# Altium footprint library jeu_du_moulin_boura_TouchPAD.PcbLib: 16 footprints
Each footprint in its own frame and in the unit in brackets; x right, y up, seen from the top. Pads: shape width x height; smd on the part's side, far side on the other; paste and mask are expansions set on the pad; w line width, h text height; cw(c..) or ccw(c..) is an arc to the next point about the centre after c.
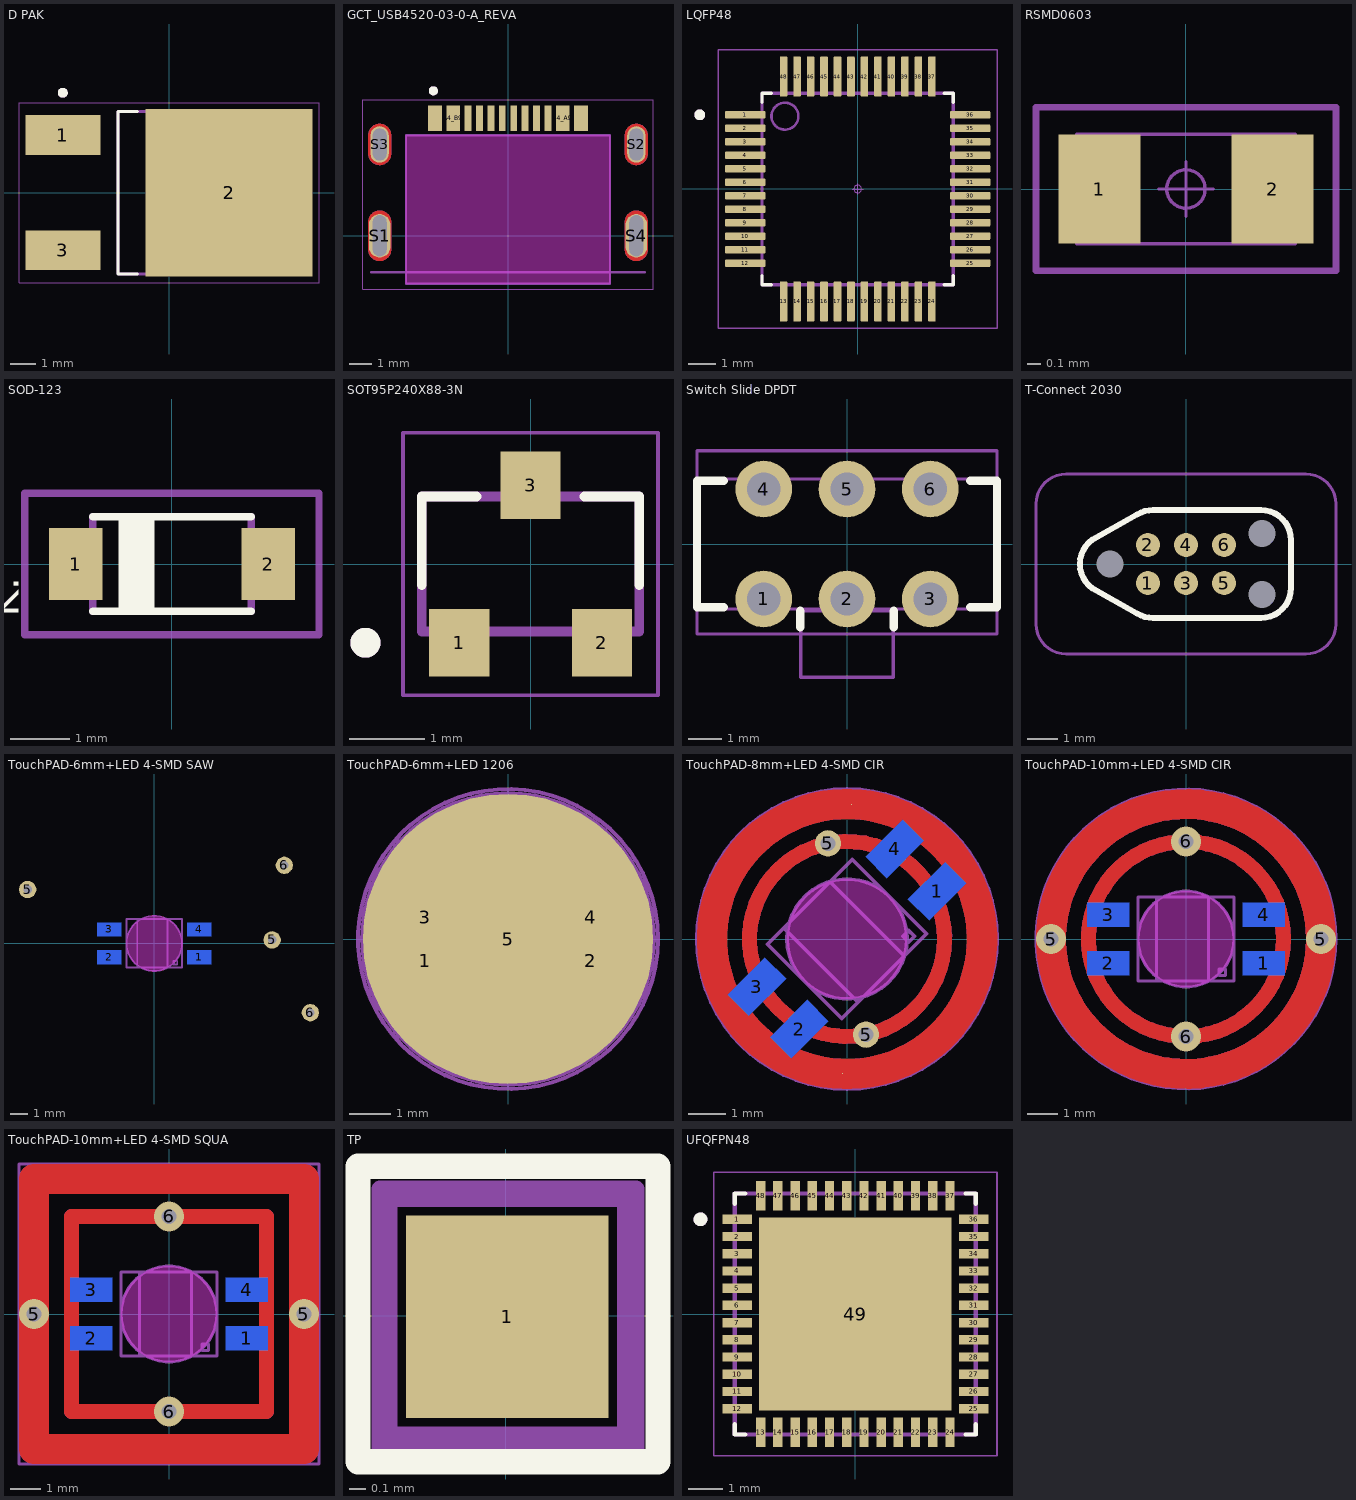
[diagram p0: the footprints below, top view; thin cyan lines are the x and y axes]

## D PAK [mm]
height 2.4
pads (3):
  rect 3x1.6 smd: 1(-4.25,2.3) 3(-4.25,-2.3)
  rect 6.7x6.7 smd paste-2.645: 2(2.4,0)
Top Overlay:
  circle w0.2: c-4.25,4 r0.1
  lines w0.127: -1.264,-3.25 -2.037,-3.25 -2.037,3.25 -1.264,3.25
Top Paste:
  region: 0.645,-3.165 -0.765,-3.165 -0.765,-1.755 0.645,-1.755
  region: 0.645,-0.705 -0.765,-0.705 -0.765,0.705 0.645,0.705
  region: 0.645,1.755 -0.765,1.755 -0.765,3.165 0.645,3.165
  region: 5.565,-3.165 4.155,-3.165 4.155,-1.755 5.565,-1.755
  region: 3.105,-3.165 1.695,-3.165 1.695,-1.755 3.105,-1.755
  region: 5.565,-0.705 4.155,-0.705 4.155,0.705 5.565,0.705
  region: 5.565,1.755 4.155,1.755 4.155,3.165 5.565,3.165
  region: 3.105,1.755 1.695,1.755 1.695,3.165 3.105,3.165
Top Assembly:
  circle w0.2: c-4.25,4 r0.1
  lines w0.127: -2.037,-3.25 -2.037,3.25 4.062,3.25 4.062,-3.25 -2.037,-3.25
  text ".Designator" at -3.533,4.862 h0.8
Top Courtyard:
  lines w0.05: -6,-3.6 6,-3.6 6,3.6 -6,3.6 -6,-3.6
3D body "step_temp.STEP": height 2.4, standoff 0, extent -4.862,-3.25 4.862,3.25

## GCT_USB4520-03-0-A_REVA [mm] "USB-C"
pads (16):
  rect 0.6x1.1 smd: A1_B12(-3.2,5.15) A4_B9(-2.4,5.15) B1_A12(3.2,5.15) B4_A9(2.4,5.15)
  rect 0.3x1.1 smd: A5(-1.25,5.15) A6(-0.25,5.15) A7(0.25,5.15) A8(1.25,5.15) B5(1.75,5.15) B6(0.75,5.15) B7(-0.75,5.15) B8(-1.75,5.15)
  oval 0.95x1.9 hole 0.6 slot 1.8 at 90 deg mask+0: S1(-5.62,0) S4(5.62,0)
  oval 0.8x1.6 hole 0.6 slot 1.4 at 90 deg mask+0: S2(5.62,4) S3(-5.62,4)
Top Layer:
  region: -5.594,4.899 -5.568,4.897 -5.542,4.894 -5.516,4.889 -5.491,4.883 -5.465,4.876 -5.441,4.867 -5.417,4.857 -5.393,4.846 -5.37,4.833 -5.348,4.819 -5.326,4.805 -5.305,4.789 -5.285,4.772 -5.266,4.754 -5.248,4.735 -5.231,4.715 -5.215,4.694 -5.201,4.672 -5.187,4.65 -5.174,4.627 -5.163,4.603 -5.153,4.579 -5.144,4.555 -5.137,4.529 -5.131,4.504 -5.126,4.478 -5.123,4.452 -5.121,4.426 -5.12,4.4 -5.12,3.6 -5.121,3.574 -5.123,3.548 -5.126,3.522 -5.131,3.496 -5.137,3.471 -5.144,3.445 -5.153,3.421 -5.163,3.397 -5.174,3.373 -5.187,3.35 -5.201,3.328 -5.215,3.306 -5.231,3.285 -5.248,3.265 -5.266,3.246 -5.285,3.228 -5.305,3.211 -5.326,3.195 -5.348,3.181 -5.37,3.167 -5.393,3.154 -5.417,3.143 -5.441,3.133 -5.465,3.124 -5.491,3.117 -5.516,3.111 -5.542,3.106 -5.568,3.103 -5.594,3.101 -5.62,3.1 -5.646,3.101 -5.672,3.103 -5.698,3.106 -5.724,3.111 -5.749,3.117 -5.775,3.124 -5.799,3.133 -5.823,3.143 -5.847,3.154 -5.87,3.167 -5.892,3.181 -5.914,3.195 -5.935,3.211 -5.955,3.228 -5.974,3.246 -5.992,3.265 -6.009,3.285 -6.025,3.306 -6.039,3.328 -6.053,3.35 -6.066,3.373 -6.077,3.397 -6.087,3.421 -6.096,3.445 -6.103,3.471 -6.109,3.496 -6.114,3.522 -6.117,3.548 -6.119,3.574 -6.12,3.6 -6.12,4.4 -6.119,4.426 -6.117,4.452 -6.114,4.478 -6.109,4.504 -6.103,4.529 -6.096,4.555 -6.087,4.579 -6.077,4.603 -6.066,4.627 -6.053,4.65 -6.039,4.672 -6.025,4.694 -6.009,4.715 -5.992,4.735 -5.974,4.754 -5.955,4.772 -5.935,4.789 -5.914,4.805 -5.892,4.819 -5.87,4.833 -5.847,4.846 -5.823,4.857 -5.799,4.867 -5.775,4.876 -5.749,4.883 -5.724,4.889 -5.698,4.894 -5.672,4.897 -5.646,4.899 -5.62,4.9
  region: 5.646,4.899 5.672,4.897 5.698,4.894 5.724,4.889 5.749,4.883 5.775,4.876 5.799,4.867 5.823,4.857 5.847,4.846 5.87,4.833 5.892,4.819 5.914,4.805 5.935,4.789 5.955,4.772 5.974,4.754 5.992,4.735 6.009,4.715 6.025,4.694 6.039,4.672 6.053,4.65 6.066,4.627 6.077,4.603 6.087,4.579 6.096,4.555 6.103,4.529 6.109,4.504 6.114,4.478 6.117,4.452 6.119,4.426 6.12,4.4 6.12,3.6 6.119,3.574 6.117,3.548 6.114,3.522 6.109,3.496 6.103,3.471 6.096,3.445 6.087,3.421 6.077,3.397 6.066,3.373 6.053,3.35 6.039,3.328 6.025,3.306 6.009,3.285 5.992,3.265 5.974,3.246 5.955,3.228 5.935,3.211 5.914,3.195 5.892,3.181 5.87,3.167 5.847,3.154 5.823,3.143 5.799,3.133 5.775,3.124 5.749,3.117 5.724,3.111 5.698,3.106 5.672,3.103 5.646,3.101 5.62,3.1 5.594,3.101 5.568,3.103 5.542,3.106 5.516,3.111 5.491,3.117 5.465,3.124 5.441,3.133 5.417,3.143 5.393,3.154 5.37,3.167 5.348,3.181 5.326,3.195 5.305,3.211 5.285,3.228 5.266,3.246 5.248,3.265 5.231,3.285 5.215,3.306 5.201,3.328 5.187,3.35 5.174,3.373 5.163,3.397 5.153,3.421 5.144,3.445 5.137,3.471 5.131,3.496 5.126,3.522 5.123,3.548 5.121,3.574 5.12,3.6 5.12,4.4 5.121,4.426 5.123,4.452 5.126,4.478 5.131,4.504 5.137,4.529 5.144,4.555 5.153,4.579 5.163,4.603 5.174,4.627 5.187,4.65 5.201,4.672 5.215,4.694 5.231,4.715 5.248,4.735 5.266,4.754 5.285,4.772 5.305,4.789 5.326,4.805 5.348,4.819 5.37,4.833 5.393,4.846 5.417,4.857 5.441,4.867 5.465,4.876 5.491,4.883 5.516,4.889 5.542,4.894 5.568,4.897 5.594,4.899 5.62,4.9
  region: -5.594,1.099 -5.568,1.097 -5.542,1.094 -5.516,1.089 -5.491,1.083 -5.465,1.076 -5.441,1.067 -5.417,1.057 -5.393,1.046 -5.37,1.033 -5.348,1.019 -5.326,1.005 -5.305,0.989 -5.285,0.972 -5.266,0.954 -5.248,0.935 -5.231,0.915 -5.215,0.894 -5.201,0.872 -5.187,0.85 -5.174,0.827 -5.163,0.803 -5.153,0.779 -5.144,0.755 -5.137,0.729 -5.131,0.704 -5.126,0.678 -5.123,0.652 -5.121,0.626 -5.12,0.6 -5.12,-0.6 -5.121,-0.626 -5.123,-0.652 -5.126,-0.678 -5.131,-0.704 -5.137,-0.729 -5.144,-0.755 -5.153,-0.779 -5.163,-0.803 -5.174,-0.827 -5.187,-0.85 -5.201,-0.872 -5.215,-0.894 -5.231,-0.915 -5.248,-0.935 -5.266,-0.954 -5.285,-0.972 -5.305,-0.989 -5.326,-1.005 -5.348,-1.019 -5.37,-1.033 -5.393,-1.046 -5.417,-1.057 -5.441,-1.067 -5.465,-1.076 -5.491,-1.083 -5.516,-1.089 -5.542,-1.094 -5.568,-1.097 -5.594,-1.099 -5.62,-1.1 -5.646,-1.099 -5.672,-1.097 -5.698,-1.094 -5.724,-1.089 -5.749,-1.083 -5.775,-1.076 -5.799,-1.067 -5.823,-1.057 -5.847,-1.046 -5.87,-1.033 -5.892,-1.019 -5.914,-1.005 -5.935,-0.989 -5.955,-0.972 -5.974,-0.954 -5.992,-0.935 -6.009,-0.915 -6.025,-0.894 -6.039,-0.872 -6.053,-0.85 -6.066,-0.827 -6.077,-0.803 -6.087,-0.779 -6.096,-0.755 -6.103,-0.729 -6.109,-0.704 -6.114,-0.678 -6.117,-0.652 -6.119,-0.626 -6.12,-0.6 -6.12,0.6 -6.119,0.626 -6.117,0.652 -6.114,0.678 -6.109,0.704 -6.103,0.729 -6.096,0.755 -6.087,0.779 -6.077,0.803 -6.066,0.827 -6.053,0.85 -6.039,0.872 -6.025,0.894 -6.009,0.915 -5.992,0.935 -5.974,0.954 -5.955,0.972 -5.935,0.989 -5.914,1.005 -5.892,1.019 -5.87,1.033 -5.847,1.046 -5.823,1.057 -5.799,1.067 -5.775,1.076 -5.749,1.083 -5.724,1.089 -5.698,1.094 -5.672,1.097 -5.646,1.099 -5.62,1.1
  region: 5.646,1.099 5.672,1.097 5.698,1.094 5.724,1.089 5.749,1.083 5.775,1.076 5.799,1.067 5.823,1.057 5.847,1.046 5.87,1.033 5.892,1.019 5.914,1.005 5.935,0.989 5.955,0.972 5.974,0.954 5.992,0.935 6.009,0.915 6.025,0.894 6.039,0.872 6.053,0.85 6.066,0.827 6.077,0.803 6.087,0.779 6.096,0.755 6.103,0.729 6.109,0.704 6.114,0.678 6.117,0.652 6.119,0.626 6.12,0.6 6.12,-0.6 6.119,-0.626 6.117,-0.652 6.114,-0.678 6.109,-0.704 6.103,-0.729 6.096,-0.755 6.087,-0.779 6.077,-0.803 6.066,-0.827 6.053,-0.85 6.039,-0.872 6.025,-0.894 6.009,-0.915 5.992,-0.935 5.974,-0.954 5.955,-0.972 5.935,-0.989 5.914,-1.005 5.892,-1.019 5.87,-1.033 5.847,-1.046 5.823,-1.057 5.799,-1.067 5.775,-1.076 5.749,-1.083 5.724,-1.089 5.698,-1.094 5.672,-1.097 5.646,-1.099 5.62,-1.1 5.594,-1.099 5.568,-1.097 5.542,-1.094 5.516,-1.089 5.491,-1.083 5.465,-1.076 5.441,-1.067 5.417,-1.057 5.393,-1.046 5.37,-1.033 5.348,-1.019 5.326,-1.005 5.305,-0.989 5.285,-0.972 5.266,-0.954 5.248,-0.935 5.231,-0.915 5.215,-0.894 5.201,-0.872 5.187,-0.85 5.174,-0.827 5.163,-0.803 5.153,-0.779 5.144,-0.755 5.137,-0.729 5.131,-0.704 5.126,-0.678 5.123,-0.652 5.121,-0.626 5.12,-0.6 5.12,0.6 5.121,0.626 5.123,0.652 5.126,0.678 5.131,0.704 5.137,0.729 5.144,0.755 5.153,0.779 5.163,0.803 5.174,0.827 5.187,0.85 5.201,0.872 5.215,0.894 5.231,0.915 5.248,0.935 5.266,0.954 5.285,0.972 5.305,0.989 5.326,1.005 5.348,1.019 5.37,1.033 5.393,1.046 5.417,1.057 5.441,1.067 5.465,1.076 5.491,1.083 5.516,1.089 5.542,1.094 5.568,1.097 5.594,1.099 5.62,1.1
Bottom Layer:
  region: -5.594,4.899 -5.568,4.897 -5.542,4.894 -5.516,4.889 -5.491,4.883 -5.465,4.876 -5.441,4.867 -5.417,4.857 -5.393,4.846 -5.37,4.833 -5.348,4.819 -5.326,4.805 -5.305,4.789 -5.285,4.772 -5.266,4.754 -5.248,4.735 -5.231,4.715 -5.215,4.694 -5.201,4.672 -5.187,4.65 -5.174,4.627 -5.163,4.603 -5.153,4.579 -5.144,4.555 -5.137,4.529 -5.131,4.504 -5.126,4.478 -5.123,4.452 -5.121,4.426 -5.12,4.4 -5.12,3.6 -5.121,3.574 -5.123,3.548 -5.126,3.522 -5.131,3.496 -5.137,3.471 -5.144,3.445 -5.153,3.421 -5.163,3.397 -5.174,3.373 -5.187,3.35 -5.201,3.328 -5.215,3.306 -5.231,3.285 -5.248,3.265 -5.266,3.246 -5.285,3.228 -5.305,3.211 -5.326,3.195 -5.348,3.181 -5.37,3.167 -5.393,3.154 -5.417,3.143 -5.441,3.133 -5.465,3.124 -5.491,3.117 -5.516,3.111 -5.542,3.106 -5.568,3.103 -5.594,3.101 -5.62,3.1 -5.646,3.101 -5.672,3.103 -5.698,3.106 -5.724,3.111 -5.749,3.117 -5.775,3.124 -5.799,3.133 -5.823,3.143 -5.847,3.154 -5.87,3.167 -5.892,3.181 -5.914,3.195 -5.935,3.211 -5.955,3.228 -5.974,3.246 -5.992,3.265 -6.009,3.285 -6.025,3.306 -6.039,3.328 -6.053,3.35 -6.066,3.373 -6.077,3.397 -6.087,3.421 -6.096,3.445 -6.103,3.471 -6.109,3.496 -6.114,3.522 -6.117,3.548 -6.119,3.574 -6.12,3.6 -6.12,4.4 -6.119,4.426 -6.117,4.452 -6.114,4.478 -6.109,4.504 -6.103,4.529 -6.096,4.555 -6.087,4.579 -6.077,4.603 -6.066,4.627 -6.053,4.65 -6.039,4.672 -6.025,4.694 -6.009,4.715 -5.992,4.735 -5.974,4.754 -5.955,4.772 -5.935,4.789 -5.914,4.805 -5.892,4.819 -5.87,4.833 -5.847,4.846 -5.823,4.857 -5.799,4.867 -5.775,4.876 -5.749,4.883 -5.724,4.889 -5.698,4.894 -5.672,4.897 -5.646,4.899 -5.62,4.9
  region: 5.646,4.899 5.672,4.897 5.698,4.894 5.724,4.889 5.749,4.883 5.775,4.876 5.799,4.867 5.823,4.857 5.847,4.846 5.87,4.833 5.892,4.819 5.914,4.805 5.935,4.789 5.955,4.772 5.974,4.754 5.992,4.735 6.009,4.715 6.025,4.694 6.039,4.672 6.053,4.65 6.066,4.627 6.077,4.603 6.087,4.579 6.096,4.555 6.103,4.529 6.109,4.504 6.114,4.478 6.117,4.452 6.119,4.426 6.12,4.4 6.12,3.6 6.119,3.574 6.117,3.548 6.114,3.522 6.109,3.496 6.103,3.471 6.096,3.445 6.087,3.421 6.077,3.397 6.066,3.373 6.053,3.35 6.039,3.328 6.025,3.306 6.009,3.285 5.992,3.265 5.974,3.246 5.955,3.228 5.935,3.211 5.914,3.195 5.892,3.181 5.87,3.167 5.847,3.154 5.823,3.143 5.799,3.133 5.775,3.124 5.749,3.117 5.724,3.111 5.698,3.106 5.672,3.103 5.646,3.101 5.62,3.1 5.594,3.101 5.568,3.103 5.542,3.106 5.516,3.111 5.491,3.117 5.465,3.124 5.441,3.133 5.417,3.143 5.393,3.154 5.37,3.167 5.348,3.181 5.326,3.195 5.305,3.211 5.285,3.228 5.266,3.246 5.248,3.265 5.231,3.285 5.215,3.306 5.201,3.328 5.187,3.35 5.174,3.373 5.163,3.397 5.153,3.421 5.144,3.445 5.137,3.471 5.131,3.496 5.126,3.522 5.123,3.548 5.121,3.574 5.12,3.6 5.12,4.4 5.121,4.426 5.123,4.452 5.126,4.478 5.131,4.504 5.137,4.529 5.144,4.555 5.153,4.579 5.163,4.603 5.174,4.627 5.187,4.65 5.201,4.672 5.215,4.694 5.231,4.715 5.248,4.735 5.266,4.754 5.285,4.772 5.305,4.789 5.326,4.805 5.348,4.819 5.37,4.833 5.393,4.846 5.417,4.857 5.441,4.867 5.465,4.876 5.491,4.883 5.516,4.889 5.542,4.894 5.568,4.897 5.594,4.899 5.62,4.9
  region: 5.646,1.099 5.672,1.097 5.698,1.094 5.724,1.089 5.749,1.083 5.775,1.076 5.799,1.067 5.823,1.057 5.847,1.046 5.87,1.033 5.892,1.019 5.914,1.005 5.935,0.989 5.955,0.972 5.974,0.954 5.992,0.935 6.009,0.915 6.025,0.894 6.039,0.872 6.053,0.85 6.066,0.827 6.077,0.803 6.087,0.779 6.096,0.755 6.103,0.729 6.109,0.704 6.114,0.678 6.117,0.652 6.119,0.626 6.12,0.6 6.12,-0.6 6.119,-0.626 6.117,-0.652 6.114,-0.678 6.109,-0.704 6.103,-0.729 6.096,-0.755 6.087,-0.779 6.077,-0.803 6.066,-0.827 6.053,-0.85 6.039,-0.872 6.025,-0.894 6.009,-0.915 5.992,-0.935 5.974,-0.954 5.955,-0.972 5.935,-0.989 5.914,-1.005 5.892,-1.019 5.87,-1.033 5.847,-1.046 5.823,-1.057 5.799,-1.067 5.775,-1.076 5.749,-1.083 5.724,-1.089 5.698,-1.094 5.672,-1.097 5.646,-1.099 5.62,-1.1 5.594,-1.099 5.568,-1.097 5.542,-1.094 5.516,-1.089 5.491,-1.083 5.465,-1.076 5.441,-1.067 5.417,-1.057 5.393,-1.046 5.37,-1.033 5.348,-1.019 5.326,-1.005 5.305,-0.989 5.285,-0.972 5.266,-0.954 5.248,-0.935 5.231,-0.915 5.215,-0.894 5.201,-0.872 5.187,-0.85 5.174,-0.827 5.163,-0.803 5.153,-0.779 5.144,-0.755 5.137,-0.729 5.131,-0.704 5.126,-0.678 5.123,-0.652 5.121,-0.626 5.12,-0.6 5.12,0.6 5.121,0.626 5.123,0.652 5.126,0.678 5.131,0.704 5.137,0.729 5.144,0.755 5.153,0.779 5.163,0.803 5.174,0.827 5.187,0.85 5.201,0.872 5.215,0.894 5.231,0.915 5.248,0.935 5.266,0.954 5.285,0.972 5.305,0.989 5.326,1.005 5.348,1.019 5.37,1.033 5.393,1.046 5.417,1.057 5.441,1.067 5.465,1.076 5.491,1.083 5.516,1.089 5.542,1.094 5.568,1.097 5.594,1.099 5.62,1.1
  region: -5.594,1.099 -5.568,1.097 -5.542,1.094 -5.516,1.089 -5.491,1.083 -5.465,1.076 -5.441,1.067 -5.417,1.057 -5.393,1.046 -5.37,1.033 -5.348,1.019 -5.326,1.005 -5.305,0.989 -5.285,0.972 -5.266,0.954 -5.248,0.935 -5.231,0.915 -5.215,0.894 -5.201,0.872 -5.187,0.85 -5.174,0.827 -5.163,0.803 -5.153,0.779 -5.144,0.755 -5.137,0.729 -5.131,0.704 -5.126,0.678 -5.123,0.652 -5.121,0.626 -5.12,0.6 -5.12,-0.6 -5.121,-0.626 -5.123,-0.652 -5.126,-0.678 -5.131,-0.704 -5.137,-0.729 -5.144,-0.755 -5.153,-0.779 -5.163,-0.803 -5.174,-0.827 -5.187,-0.85 -5.201,-0.872 -5.215,-0.894 -5.231,-0.915 -5.248,-0.935 -5.266,-0.954 -5.285,-0.972 -5.305,-0.989 -5.326,-1.005 -5.348,-1.019 -5.37,-1.033 -5.393,-1.046 -5.417,-1.057 -5.441,-1.067 -5.465,-1.076 -5.491,-1.083 -5.516,-1.089 -5.542,-1.094 -5.568,-1.097 -5.594,-1.099 -5.62,-1.1 -5.646,-1.099 -5.672,-1.097 -5.698,-1.094 -5.724,-1.089 -5.749,-1.083 -5.775,-1.076 -5.799,-1.067 -5.823,-1.057 -5.847,-1.046 -5.87,-1.033 -5.892,-1.019 -5.914,-1.005 -5.935,-0.989 -5.955,-0.972 -5.974,-0.954 -5.992,-0.935 -6.009,-0.915 -6.025,-0.894 -6.039,-0.872 -6.053,-0.85 -6.066,-0.827 -6.077,-0.803 -6.087,-0.779 -6.096,-0.755 -6.103,-0.729 -6.109,-0.704 -6.114,-0.678 -6.117,-0.652 -6.119,-0.626 -6.12,-0.6 -6.12,0.6 -6.119,0.626 -6.117,0.652 -6.114,0.678 -6.109,0.704 -6.103,0.729 -6.096,0.755 -6.087,0.779 -6.077,0.803 -6.066,0.827 -6.053,0.85 -6.039,0.872 -6.025,0.894 -6.009,0.915 -5.992,0.935 -5.974,0.954 -5.955,0.972 -5.935,0.989 -5.914,1.005 -5.892,1.019 -5.87,1.033 -5.847,1.046 -5.823,1.057 -5.799,1.067 -5.775,1.076 -5.749,1.083 -5.724,1.089 -5.698,1.094 -5.672,1.097 -5.646,1.099 -5.62,1.1
Top Overlay:
  circle w0.2: c-3.27,6.35 r0.1
Top Solder:
  drawing of 4 lines, arcs and shapes, not listed
Bottom Solder:
  drawing of 4 lines, arcs and shapes, not listed
Keep-Out Layer:
  board cut-out: -4.475,-2.1 -4.475,4.4 4.475,4.4 4.475,-2.1
Top Assembly:
  circle w0.2: c-3.27,6.35 r0.1
  lines w0.1: -6,-1.6 6,-1.6 ; -4.47,-2.1 -4.47,4.4 4.47,4.4 4.47,-2.1 -4.47,-2.1
  text ".Designator" at -2.1,6.375 h0.8
Top Courtyard:
  lines w0.05: -6.37,-2.35 -6.37,5.95 6.37,5.95 6.37,-2.35 -6.37,-2.35
3D body "step_temp.STEP": height 1.06, standoff -2.1, extent -5.77,-2.1 5.77,5.1

## LQFP48 [mm] "P1086"
height 1.6
pads (48):
  rrect25% 1.49x0.28 smd: 1(-4.17,2.75) 2(-4.17,2.25) 3(-4.17,1.75) 4(-4.17,1.25) 5(-4.17,0.75) 6(-4.17,0.25) 7(-4.17,-0.25) 8(-4.17,-0.75) 9(-4.17,-1.25) 10(-4.17,-1.75) 11(-4.17,-2.25) 12(-4.17,-2.75) 25(4.17,-2.75) 26(4.17,-2.25) 27(4.17,-1.75) 28(4.17,-1.25) 29(4.17,-0.75) 30(4.17,-0.25) 31(4.17,0.25) 32(4.17,0.75) 33(4.17,1.25) 34(4.17,1.75) 35(4.17,2.25) 36(4.17,2.75)
  rrect25% 0.28x1.49 smd: 13(-2.75,-4.17) 14(-2.25,-4.17) 15(-1.75,-4.17) 16(-1.25,-4.17) 17(-0.75,-4.17) 18(-0.25,-4.17) 19(0.25,-4.17) 20(0.75,-4.17) 21(1.25,-4.17) 22(1.75,-4.17) 23(2.25,-4.17) 24(2.75,-4.17) 37(2.75,4.17) 38(2.25,4.17) 39(1.75,4.17) 40(1.25,4.17) 41(0.75,4.17) 42(0.25,4.17) 43(-0.25,4.17) 44(-0.75,4.17) 45(-1.25,4.17) 46(-1.75,4.17) 47(-2.25,4.17) 48(-2.75,4.17)
Top Overlay:
  circle w0.2: c-5.86,2.75 r0.1
  lines w0.127: -3.55,-3.21 -3.55,-3.55 -3.21,-3.55 ; -3.55,3.21 -3.55,3.55 -3.21,3.55 ; 3.21,-3.55 3.55,-3.55 3.55,-3.21 ; 3.21,3.55 3.55,3.55 3.55,3.21
Body Center:
  circle w0.025: c0,0 r0.141
  lines w0.025: -0.2,0 0.2,0 -0.2,0 ; 0,-0.2 0,0.2 0,-0.2
Top Assembly:
  circle w0.2: c-5.86,2.75 r0.1
  circle w0.1: c-2.7,2.7 r0.5
  lines w0.127: -3.55,-3.55 3.55,-3.55 3.55,3.55 -3.55,3.55 -3.55,-3.55
  text ".Designator" at -2,5.5 h1
Top Courtyard:
  lines w0.05: -5.165,-5.165 5.165,-5.165 5.165,5.165 -5.165,5.165 -5.165,-5.165
3D body "MS-026BBC.stp": height 1.6, standoff 0, extent -4.6,-4.6 4.6,4.6

## RSMD0603 [mm] "P1 - 0603"
pads (2):
  rect 0.6x0.8 smd: 1(-0.635,0) 2(0.635,0)
Body Center:
  circle w0.025: c0,0 r0.141
  lines w0.025: -0.2,0 0.2,0 ; 0,-0.2 0,0.2
Top Assembly:
  lines w0.025: -0.7,0.4 -0.8,0.4 ; -0.8,0.4 0.8,0.4 0.8,-0.4 -0.8,-0.4 -0.8,0.4
  text ".Designator" at -2.439,1.062 h1
Top Courtyard:
  lines w0.05: -1.1,-0.6 1.1,-0.6 1.1,0.6 -1.1,0.6 -1.1,-0.6
3D body "RES0603.stp": height 0.45, standoff 0, extent -0.8,-0.4 0.8,0.4

## SOD-123 [mm]
pads (2):
  rect 0.91x1.22 smd: 1(-1.635,0) 2(1.635,0)
Top Overlay:
  region: -0.3,-0.801 -0.901,-0.801 -0.901,0.8 -0.3,0.8
  lines w0.127: -1.35,-0.8 1.35,-0.8 ; -1.35,0.8 1.35,0.8
  text "K." at -2.6,-0.9 h0.5
Top Assembly:
  lines w0.127: -1.35,-0.8 -1.35,0.8 ; 1.35,-0.8 1.35,0.8
  text ".Designator" at -3.35,1.917 h0.8
Top Courtyard:
  lines w0.127: -2.5,-1.2 -2.5,1.2 2.5,1.2 2.5,-1.2 -2.5,-1.2
3D body "step_temp.STEP": height 1.35, standoff 0, extent -1.84,-0.8 1.84,0.8

## SOT95P240X88-3N [mm]
pads (3):
  rect 0.8x0.9 smd: 1(-0.95,-1.05) 2(0.95,-1.05) 3(0,1.05)
Top Overlay:
  circle w0.2: c-2.2,-1.05 r0.1
  lines w0.127: -1.45,-0.28 -1.45,0.9 -0.72,0.9 ; 0.72,0.9 1.45,0.9 1.45,-0.28
Top Assembly:
  circle w0.2: c-2.2,-1.05 r0.1
  lines w0.127: -1.45,-0.9 -1.45,0.9 1.45,0.9 1.45,-0.9 -1.45,-0.9
  text ".Designator" at -2.85,2.417 h0.8
Top Courtyard:
  lines w0.05: -1.7,-1.75 1.7,-1.75 1.7,1.75 -1.7,1.75 -1.7,-1.75
3D body "step_temp.STEP": height 0.89, standoff 0, extent -1.429,-1.232 1.429,1.232

## Switch Slide DPDT [mm]
pads (6):
  round 1.7 hole 1: 1(-2.5,-1.65) 2(0,-1.65) 3(2.5,-1.65) 4(-2.5,1.65) 5(0,1.65) 6(2.5,1.65)
Top Overlay:
  lines w0.254: -3.7,-1.9 -4.5,-1.9 -4.5,1.9 -3.7,1.9 ; -1.4,-2.5 -1.4,-2 ; 1.4,-2.5 1.4,-2 ; 3.7,-1.9 4.5,-1.9 4.5,1.9 3.7,1.9
Top Assembly:
  lines w0.1: -4.5,-1.95 4.5,-1.95 4.5,1.95 -4.5,1.95 -4.5,-1.95 ; -1.388,-4 1.388,-4 1.388,-2 -1.388,-2 -1.388,-4
  text ".Designator" at -2.95,4.817 h0.8
Top Courtyard:
  lines w0.1: -4.5,-2.7 4.5,-2.7 4.5,2.8 -4.5,2.8 -4.5,-2.7

## T-Connect 2030 [mm]
pads (9):
  round 0.8 smd paste-0.4: 1(-1.27,-0.635) 2(-1.27,0.635) 3(0,-0.635) 4(0,0.635) 5(1.27,-0.635) 6(1.27,0.635)
  round 0.85 hole 0.9 unplated mask+0: ""(-2.54,0) ""(2.54,-1.016) ""(2.54,1.016)
Top Overlay:
  lines w0.2: -3.111,-0.816 cw(c-2.544,0) -3.111,0.816 -1.63,1.648 cw(c-1.1,0.8) -1.1,1.8 2.5,1.8 cw(c2.5,0.8) 3.5,0.8 3.5,-0.8 cw(c2.5,-0.8) 2.5,-1.8 -1.1,-1.8 cw(c-1.1,-0.8) -1.63,-1.648 -3.111,-0.816
Top Assembly:
  lines w0.1: -5,-2 ccw(c-4,-2) -4,-3 4,-3 ccw(c4,-2) 5,-2 5,2 ccw(c4,2) 4,3 -4,3 ccw(c-4,2) -5,2 -5,-2
  text ".Designator" at -1.85,3.417 h0.8
Top Courtyard:
  lines w0.1: -5,-2 ccw(c-4,-2) -4,-3 4,-3 ccw(c4,-2) 5,-2 5,2 ccw(c4,2) 4,3 -4,3 ccw(c-4,2) -5,2 -5,-2

## TouchPAD-6mm+LED 4-SMD SAW [mm]
pads (8):
  rect 1.4x0.8 smd far side: 1(2.6,-0.8) 2(-2.6,-0.8) 3(-2.6,0.8) 4(2.6,0.8)
  round 1 hole 0.5: 5(-7.3,3.1) 5(6.8,0.2) 6(7.5,4.5) 6(9,-4)
Bottom Overlay:
  circle w0.1: c1.9,-1.7 r0.1
  lines w0.1: -0.622,2.143 -0.122,2.143 ; -0.6,-2.1 -0.1,-2.1 ; -0.1,-2.4 -0.1,-1.8 ; 0.178,1.843 0.178,2.443 ; 0.2,-2.1 0.7,-2.1 ; 0.678,2.143 0.178,2.143 ; -0.1,-2.1 0.2,-2.4 0.2,-1.8 -0.1,-2.1 ; 0.178,2.143 -0.122,2.443 -0.122,1.843 0.178,2.143
  text "R" at -1.2,1.6 h0.6
  text "G" at -1.5,-2.5 h0.6
Keep-Out Layer:
  board cut-out: 0,-1.6 -0.158,-1.6 -0.467,-1.539 -0.758,-1.418 -1.02,-1.243 -1.243,-1.02 -1.418,-0.758 -1.539,-0.467 -1.6,-0.158 -1.6,0 -1.6,0.158 -1.539,0.467 -1.418,0.758 -1.243,1.02 -1.02,1.243 -0.758,1.418 -0.467,1.539 -0.158,1.6 0,1.6 0.158,1.6 0.467,1.539 0.758,1.418 1.02,1.243 1.243,1.02 1.418,0.758 1.539,0.467 1.6,0.158 1.6,0 1.6,-0.158 1.539,-0.467 1.418,-0.758 1.243,-1.02 1.02,-1.243 0.758,-1.418 0.467,-1.539 0.158,-1.6
Top Assembly:
  circle w0.1: c0,0 r1.6
  text ".Designator" at -4.8,-6.4 h1
Bottom Assembly:
  lines w0.1: -0.982,-1.4 -0.982,1.4 ; 0.758,-1.4 0.758,1.4 ; -1.6,-1.4 -1.6,1.4 1.6,1.4 1.6,-1.4 -1.6,-1.4 ; 1.1,-1.223 1.1,-1 1.323,-1 1.323,-1.223 1.1,-1.223
  text "R" at -1,1.5 h0.6
  text "G" at -1,-2.4 h0.6
  text ".Designator" at 5.2,5.6 h1

## TouchPAD-6mm+LED 1206 [mm]
pads (5):
  rect 1.1x0.8 smd far side: 1(-2,-0.525) 2(2,-0.525) 3(-2,0.525) 4(2,0.525)
  round 7 smd paste-2539.97 mask+0.102: 5(0,0)
Bottom Overlay:
  lines w0.1: -0.5,1.9 0,1.9 ; 0.3,1.6 0.3,2.2 ; 0.8,1.9 0.3,1.9 ; 0.3,1.9 0,1.6 0,2.2 0.3,1.9
  text "+" at -3.7,-0.5 h0.8
  text "G" at -1.1,-2.1 h0.6
  text "R" at -1.1,1.1 h0.6
Keep-Out Layer:
  board cut-out: 0,-1.2 -0.118,-1.2 -0.35,-1.154 -0.568,-1.063 -0.765,-0.932 -0.932,-0.765 -1.063,-0.568 -1.154,-0.35 -1.2,-0.118 -1.2,0 -1.2,0.118 -1.154,0.35 -1.063,0.568 -0.932,0.765 -0.765,0.932 -0.568,1.063 -0.35,1.154 -0.118,1.2 0,1.2 0.118,1.2 0.35,1.154 0.568,1.063 0.765,0.932 0.932,0.765 1.063,0.568 1.154,0.35 1.2,0.118 1.2,0 1.2,-0.118 1.154,-0.35 1.063,-0.568 0.932,-0.765 0.765,-0.932 0.568,-1.063 0.35,-1.154 0.118,-1.2
Top Assembly:
  circle w0.1: c0,0 r1.2
  circle w0.1: c0,0 r3.511
  text ".Designator" at -4.9,-5.2 h1
Bottom Assembly:
  lines w0.1: -1.6,-0.625 1.6,-0.625 1.6,0.625 -1.6,0.625 -1.6,-0.625 ; -0.7,-0.625 0.7,-0.625 0.7,0.625 -0.7,0.625 -0.7,-0.625 ; -0.1,-0.4 0.1,-0.4 0.1,-0.2 -0.1,-0.2 -0.1,-0.4 ; -0.1,0.2 0.1,0.2 0.1,0.4 -0.1,0.4 -0.1,0.2
  text ".Designator" at 5,4.4 h1
  text "G" at -1.1,-2.1 h0.6
  text "R" at -1.1,1.1 h0.6
  text "+" at -3.4,-0.4 h0.8
Top Courtyard:
  circle w0.1: c0,0 r3.614

## TouchPAD-8mm+LED 4-SMD CIR [mm]
pads (8):
  rect 1.4x0.8 smd far side rot 45: 1(2.404,1.273) 2(-1.273,-2.404) 3(-2.404,-1.273) 4(1.273,2.404)
  round 0.7 hole 0.4 mask+0.102: 5(-0.507,2.55) 5(0.507,-2.55)
  round 0.025 smd mask-2539.97: 6(-0.121,-3.588) 6(0.121,3.588)
Top Layer:
  circle w0.4: c0,0 r2.6
  region: -4,0 -4,-0.131 -3.983,-0.392 -3.949,-0.652 -3.898,-0.909 -3.83,-1.162 -3.746,-1.41 -3.645,-1.652 -3.53,-1.887 -3.399,-2.113 -3.253,-2.331 -3.094,-2.539 -2.921,-2.736 -2.736,-2.921 -2.539,-3.094 -2.331,-3.253 -2.113,-3.399 -1.887,-3.53 -1.652,-3.645 -1.41,-3.746 -1.162,-3.83 -0.909,-3.898 -0.652,-3.949 -0.392,-3.983 -0.131,-4 0.131,-4 0.392,-3.983 0.652,-3.949 0.909,-3.898 1.162,-3.83 1.41,-3.746 1.652,-3.645 1.887,-3.53 2.113,-3.399 2.331,-3.253 2.539,-3.094 2.736,-2.921 2.921,-2.736 3.094,-2.539 3.253,-2.331 3.399,-2.113 3.53,-1.887 3.645,-1.652 3.746,-1.41 3.83,-1.162 3.898,-0.909 3.949,-0.652 3.983,-0.392 4,-0.131 4,0 3.2,0 3.198,-0.126 3.178,-0.376 3.139,-0.624 3.08,-0.869 3.002,-1.108 2.906,-1.34 2.792,-1.564 2.661,-1.778 2.513,-1.981 2.35,-2.172 2.172,-2.35 1.981,-2.513 1.778,-2.661 1.564,-2.792 1.34,-2.906 1.108,-3.002 0.869,-3.08 0.624,-3.139 0.376,-3.178 0.126,-3.198 -0.126,-3.198 -0.376,-3.178 -0.624,-3.139 -0.869,-3.08 -1.108,-3.002 -1.34,-2.906 -1.564,-2.792 -1.778,-2.661 -1.981,-2.513 -2.172,-2.35 -2.35,-2.172 -2.513,-1.981 -2.661,-1.778 -2.792,-1.564 -2.906,-1.34 -3.002,-1.108 -3.08,-0.869 -3.139,-0.624 -3.178,-0.376 -3.198,-0.126 -3.2,0
  region: 4,0 4,0.131 3.983,0.392 3.949,0.652 3.898,0.909 3.83,1.162 3.746,1.41 3.645,1.652 3.53,1.887 3.399,2.113 3.253,2.331 3.094,2.539 2.921,2.736 2.736,2.921 2.539,3.094 2.331,3.253 2.113,3.399 1.887,3.53 1.652,3.645 1.41,3.746 1.162,3.83 0.909,3.898 0.652,3.949 0.392,3.983 0.131,4 -0.131,4 -0.392,3.983 -0.652,3.949 -0.909,3.898 -1.162,3.83 -1.41,3.746 -1.652,3.645 -1.887,3.53 -2.113,3.399 -2.331,3.253 -2.539,3.094 -2.736,2.921 -2.921,2.736 -3.094,2.539 -3.253,2.331 -3.399,2.113 -3.53,1.887 -3.645,1.652 -3.746,1.41 -3.83,1.162 -3.898,0.909 -3.949,0.652 -3.983,0.392 -4,0.131 -4,0 -3.2,0 -3.198,0.126 -3.178,0.376 -3.139,0.624 -3.08,0.869 -3.002,1.108 -2.906,1.34 -2.792,1.564 -2.661,1.778 -2.513,1.981 -2.35,2.172 -2.172,2.35 -1.981,2.513 -1.778,2.661 -1.564,2.792 -1.34,2.906 -1.108,3.002 -0.869,3.08 -0.624,3.139 -0.376,3.178 -0.126,3.198 0.126,3.198 0.376,3.178 0.624,3.139 0.869,3.08 1.108,3.002 1.34,2.906 1.564,2.792 1.778,2.661 1.981,2.513 2.172,2.35 2.35,2.172 2.513,1.981 2.661,1.778 2.792,1.564 2.906,1.34 3.002,1.108 3.08,0.869 3.139,0.624 3.178,0.376 3.198,0.126 3.2,0
Bottom Overlay:
  circle w0.1: c2.988,0.441 r0.1
  lines w0.1: -2.013,0.999 -1.658,1.351 ; -1.655,1.775 -1.233,1.349 ; -1.089,1.913 -1.444,1.562 ; 1.061,-1.909 1.414,-1.556 ; 1.202,-1.344 1.626,-1.768 ; 1.626,-1.344 1.98,-0.99 ; -1.444,1.562 -1.869,1.564 -1.447,1.138 -1.444,1.562 ; 1.414,-1.556 1.414,-1.131 1.838,-1.556 1.414,-1.556
  text "G" at 3.043,-0.463 h0.6
  text "R" at -1.98,0.283 h0.6
Keep-Out Layer:
  board cut-out: 1.131,-1.131 1.02,-1.243 0.758,-1.418 0.467,-1.539 0.158,-1.6 -0.158,-1.6 -0.467,-1.539 -0.758,-1.418 -1.02,-1.243 -1.131,-1.131 -1.243,-1.02 -1.418,-0.758 -1.539,-0.467 -1.6,-0.158 -1.6,0.158 -1.539,0.467 -1.418,0.758 -1.243,1.02 -1.131,1.131 -1.02,1.243 -0.758,1.418 -0.467,1.539 -0.158,1.6 0.158,1.6 0.467,1.539 0.758,1.418 1.02,1.243 1.131,1.131 1.243,1.02 1.418,0.758 1.539,0.467 1.6,0.158 1.6,-0.158 1.539,-0.467 1.418,-0.758 1.243,-1.02
Top Assembly:
  circle w0.1: c0,0 r1.6
  circle w0.4: c0,0 r2.6
  circle w0.8: c0,0 r3.6
  text ".Designator" at -4.8,-6.4 h1
Bottom Assembly:
  circle w0.1: c2.659,0.096 r0.1
  lines w0.1: -1.684,0.296 0.296,-1.684 ; -0.454,1.526 1.526,-0.454 ; -2.121,-0.141 0.141,2.121 2.121,0.141 -0.141,-2.121 -2.121,-0.141 ; 1.485,0.071 1.643,0.228 1.8,0.071 1.643,-0.087 1.485,0.071
  text ".Designator" at 5.2,5.6 h1
  text "G" at 2.774,-0.744 h0.6
  text "R" at -1.768,0.354 h0.6
Top Courtyard:
  circle w0.1: c0,0 r4
3D body "AAA3528-09.STEP": height -0.38, standoff -2.27, extent -2.828,-2.828 2.828,2.828

## TouchPAD-10mm+LED 4-SMD CIR [mm]
pads (8):
  rect 1.4x0.8 smd far side: 1(2.6,-0.8) 2(-2.6,-0.8) 3(-2.6,0.8) 4(2.6,0.8)
  round 1 hole 0.5: 5(-4.5,0) 5(4.5,0) 6(0,-3.25) 6(0,3.25)
Top Layer:
  circle w1: c0,0 r4.5
  circle w0.5: c0,0 r3.25
Bottom Overlay:
  circle w0.1: c1.9,-1.7 r0.1
  lines w0.1: -0.624,2.145 -0.124,2.145 ; -0.6,-2.1 -0.1,-2.1 ; -0.1,-2.4 -0.1,-1.8 ; 0.176,1.845 0.176,2.445 ; 0.2,-2.1 0.7,-2.1 ; 0.676,2.145 0.176,2.145 ; -0.1,-2.1 0.2,-1.8 0.2,-2.4 -0.1,-2.1 ; 0.176,2.145 -0.124,1.845 -0.124,2.445 0.176,2.145
  text "G" at -1.5,-2.5 h0.6
  text "R" at -1.2,1.6 h0.6
Keep-Out Layer:
  board cut-out: 0,-1.6 -0.158,-1.6 -0.467,-1.539 -0.758,-1.418 -1.02,-1.243 -1.243,-1.02 -1.418,-0.758 -1.539,-0.467 -1.6,-0.158 -1.6,0 -1.6,0.158 -1.539,0.467 -1.418,0.758 -1.243,1.02 -1.02,1.243 -0.758,1.418 -0.467,1.539 -0.158,1.6 0,1.6 0.158,1.6 0.467,1.539 0.758,1.418 1.02,1.243 1.243,1.02 1.418,0.758 1.539,0.467 1.6,0.158 1.6,0 1.6,-0.158 1.539,-0.467 1.418,-0.758 1.243,-1.02 1.02,-1.243 0.758,-1.418 0.467,-1.539 0.158,-1.6
Top Assembly:
  circle w0.1: c0,0 r1.6
  circle w0.5: c0,0 r3.25
  circle w1: c0,0 r4.5
  text ".Designator" at -4.8,-6.4 h1
Bottom Assembly:
  lines w0.1: -0.982,-1.4 -0.982,1.4 ; 0.758,-1.4 0.758,1.4 ; -1.6,-1.4 1.6,-1.4 1.6,1.4 -1.6,1.4 -1.6,-1.4 ; 1.1,-1.223 1.323,-1.223 1.323,-1 1.1,-1 1.1,-1.223
  text ".Designator" at 5.2,5.6 h1
  text "G" at -1,-2.4 h0.6
  text "R" at -1,1.5 h0.6
Top Courtyard:
  circle w0.1: c0,0 r5

## TouchPAD-10mm+LED 4-SMD SQUA [mm]
pads (8):
  rect 1.4x0.8 smd far side: 1(2.6,-0.8) 2(-2.6,-0.8) 3(-2.6,0.8) 4(2.6,0.8)
  round 1 hole 0.5: 5(-4.5,0) 5(4.5,0) 6(0,-3.25) 6(0,3.25)
Top Layer:
  lines w0.5: -3.25,-3.25 3.25,-3.25 3.25,3.25 -3.25,3.25 -3.25,-3.25
  lines w1: -4.5,-4.5 4.5,-4.5 4.5,4.5 -4.5,4.5 -4.5,-4.5
Bottom Overlay:
  circle w0.1: c1.9,-1.7 r0.1
  lines w0.1: -0.6,-2.1 -0.1,-2.1 ; -0.597,2.119 -0.097,2.119 ; -0.1,-2.4 -0.1,-1.8 ; 0.2,-2.1 0.7,-2.1 ; 0.203,1.819 0.203,2.419 ; 0.703,2.119 0.203,2.119 ; -0.1,-2.1 0.2,-2.4 0.2,-1.8 -0.1,-2.1 ; 0.203,2.119 -0.097,2.419 -0.097,1.819 0.203,2.119
  text "R" at -1.2,1.6 h0.6
  text "G" at -1.5,-2.5 h0.6
Keep-Out Layer:
  board cut-out: 0,-1.6 -0.158,-1.6 -0.467,-1.539 -0.758,-1.418 -1.02,-1.243 -1.243,-1.02 -1.418,-0.758 -1.539,-0.467 -1.6,-0.158 -1.6,0 -1.6,0.158 -1.539,0.467 -1.418,0.758 -1.243,1.02 -1.02,1.243 -0.758,1.418 -0.467,1.539 -0.158,1.6 0,1.6 0.158,1.6 0.467,1.539 0.758,1.418 1.02,1.243 1.243,1.02 1.418,0.758 1.539,0.467 1.6,0.158 1.6,0 1.6,-0.158 1.539,-0.467 1.418,-0.758 1.243,-1.02 1.02,-1.243 0.758,-1.418 0.467,-1.539 0.158,-1.6
Top Assembly:
  circle w0.1: c0,0 r1.6
  lines w0.5: -3.25,-3.25 3.25,-3.25 3.25,3.25 -3.25,3.25 -3.25,-3.25
  lines w1: -4.5,-4.5 4.5,-4.5 4.5,4.5 -4.5,4.5 -4.5,-4.5
  text ".Designator" at -5,-6.7 h1
Bottom Assembly:
  lines w0.1: -0.982,-1.4 -0.982,1.4 ; 0.758,-1.4 0.758,1.4 ; -1.6,-1.4 1.6,-1.4 1.6,1.4 -1.6,1.4 -1.6,-1.4 ; 1.1,-1.223 1.323,-1.223 1.323,-1 1.1,-1 1.1,-1.223
  text "R" at -1,1.5 h0.6
  text "G" at -1,-2.4 h0.6
  text ".Designator" at 5.2,5.7 h1
Top Courtyard:
  lines w0.1: -5,-5 5,-5 5,5 -5,5 -5,-5

## TOUCHPAD-SAW [mm]

## TP [mm] "point de test pour le eCompass"
pads (1):
  rect 1.2x1.2 smd paste-0.6: 1(0.01,-0.006)
Top Overlay:
  lines w0.15: -0.874,-0.864 -0.874,0.886 0.903,0.886 0.903,-0.864 -0.874,-0.864
Body Center:
  circle w0.025: c0.01,-0.006 r0.141
  lines w0.025: -0.19,-0.006 0.21,-0.006 ; 0.01,-0.206 0.01,0.194
Top Assembly:
  lines w0.1: -0.69,-0.706 0.71,-0.706 0.71,0.694 -0.69,0.694 -0.69,-0.706
  text ".Designator" at -4.1,1.65 h1
Top Courtyard:
  lines w0.1: -0.743,-0.783 0.773,-0.783 0.773,0.753 -0.743,0.753 -0.743,-0.783

## UFQFPN48 [mm]
height 0.6
pads (49):
  rect 0.86x0.27 smd mask+0.05: 1(-3.435,2.75) 2(-3.435,2.25) 3(-3.435,1.75) 4(-3.435,1.25) 5(-3.435,0.75) 6(-3.435,0.25) 7(-3.435,-0.25) 8(-3.435,-0.75) 9(-3.435,-1.25) 10(-3.435,-1.75) 11(-3.435,-2.25) 12(-3.435,-2.75) 25(3.435,-2.75) 26(3.435,-2.25) 27(3.435,-1.75) 28(3.435,-1.25) 29(3.435,-0.75) 30(3.435,-0.25) 31(3.435,0.25) 32(3.435,0.75) 33(3.435,1.25) 34(3.435,1.75) 35(3.435,2.25) 36(3.435,2.75)
  rect 0.27x0.86 smd mask+0.05: 13(-2.75,-3.435) 14(-2.25,-3.435) 15(-1.75,-3.435) 16(-1.25,-3.435) 17(-0.75,-3.435) 18(-0.25,-3.435) 19(0.25,-3.435) 20(0.75,-3.435) 21(1.25,-3.435) 22(1.75,-3.435) 23(2.25,-3.435) 24(2.75,-3.435) 37(2.75,3.435) 38(2.25,3.435) 39(1.75,3.435) 40(1.25,3.435) 41(0.75,3.435) 42(0.25,3.435) 43(-0.25,3.435) 44(-0.75,3.435) 45(-1.25,3.435) 46(-1.75,3.435) 47(-2.25,3.435) 48(-2.75,3.435)
  rect 5.6x5.6 smd paste-4 mask+0.05: 49(0,0)
Top Overlay:
  circle w0.2: c-4.5,2.75 r0.1
  lines w0.127: -3.5,-3.2 -3.5,-3.5 -3.2,-3.5 ; -3.5,3.2 -3.5,3.5 -3.2,3.5 ; 3.2,-3.5 3.5,-3.5 3.5,-3.2 ; 3.2,3.5 3.5,3.5 3.5,3.2
Top Paste:
  region: -0.515,0.515 -2.285,0.515 -2.285,2.285 -0.515,2.285
  region: 2.285,0.515 0.515,0.515 0.515,2.285 2.285,2.285
  region: -0.515,-2.285 -2.285,-2.285 -2.285,-0.515 -0.515,-0.515
  region: 2.285,-2.285 0.515,-2.285 0.515,-0.515 2.285,-0.515
Top Assembly:
  circle w0.2: c-4.5,2.75 r0.1
  lines w0.127: -3.5,-3.5 3.5,-3.5 3.5,3.5 -3.5,3.5 -3.5,-3.5
  text ".Designator" at -3.85,4.917 h0.8
Top Courtyard:
  lines w0.05: -4.115,-4.115 4.115,-4.115 4.115,4.115 -4.115,4.115 -4.115,-4.115
3D body "step_temp.STEP": height 0.65, standoff 0, extent -3.5,-3.5 3.5,3.5